# Altium schematic symbol library atmega328p.SchLib: 1 symbol
Pins are listed as number, name and electrical type; pins without a type are passive.

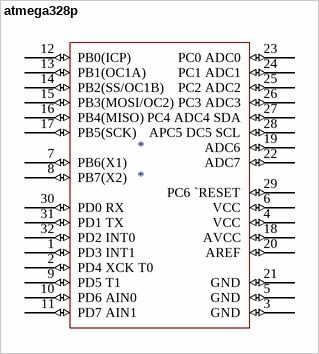
[diagram p0: symbol atmega328p]

## atmega328p
designator *
pins: 1 PD3 INT1 (io), 2 PD4 XCK T0 (io), 3 GND (io), 4 VCC (io), 5 GND (io), 6 VCC (io), 7 PB6(X1) (io), 8 PB7(X2) (io), 9 PD5 T1 (io), 10 PD6 AIN0 (io), 11 PD7 AIN1 (io), 12 PB0(ICP) (io), 13 PB1(OC1A) (io), 14 PB2(SS/OC1B) (io), 15 PB3(MOSI/OC2) (io), 16 PB4(MISO) (io), 17 PB5(SCK) (io), 18 AVCC (io), 19 ADC6 (io), 20 AREF (io), 21 GND (io), 22 ADC7 (io), 23 PC0 ADC0 (io), 24 PC1 ADC1 (io), 25 PC2 ADC2 (io), 26 PC3 ADC3 (io), 27 PC4 ADC4 SDA (io), 28 APC5 DC5 SCL (io), 29 PC6 `RESET (io), 30 PD0 RX (io), 31 PD1 TX (io), 32 PD2 INT0 (io)